# Altium integrated library Infineon_Microcontroller.IntLib: 721 symbols (part 56 of 66)
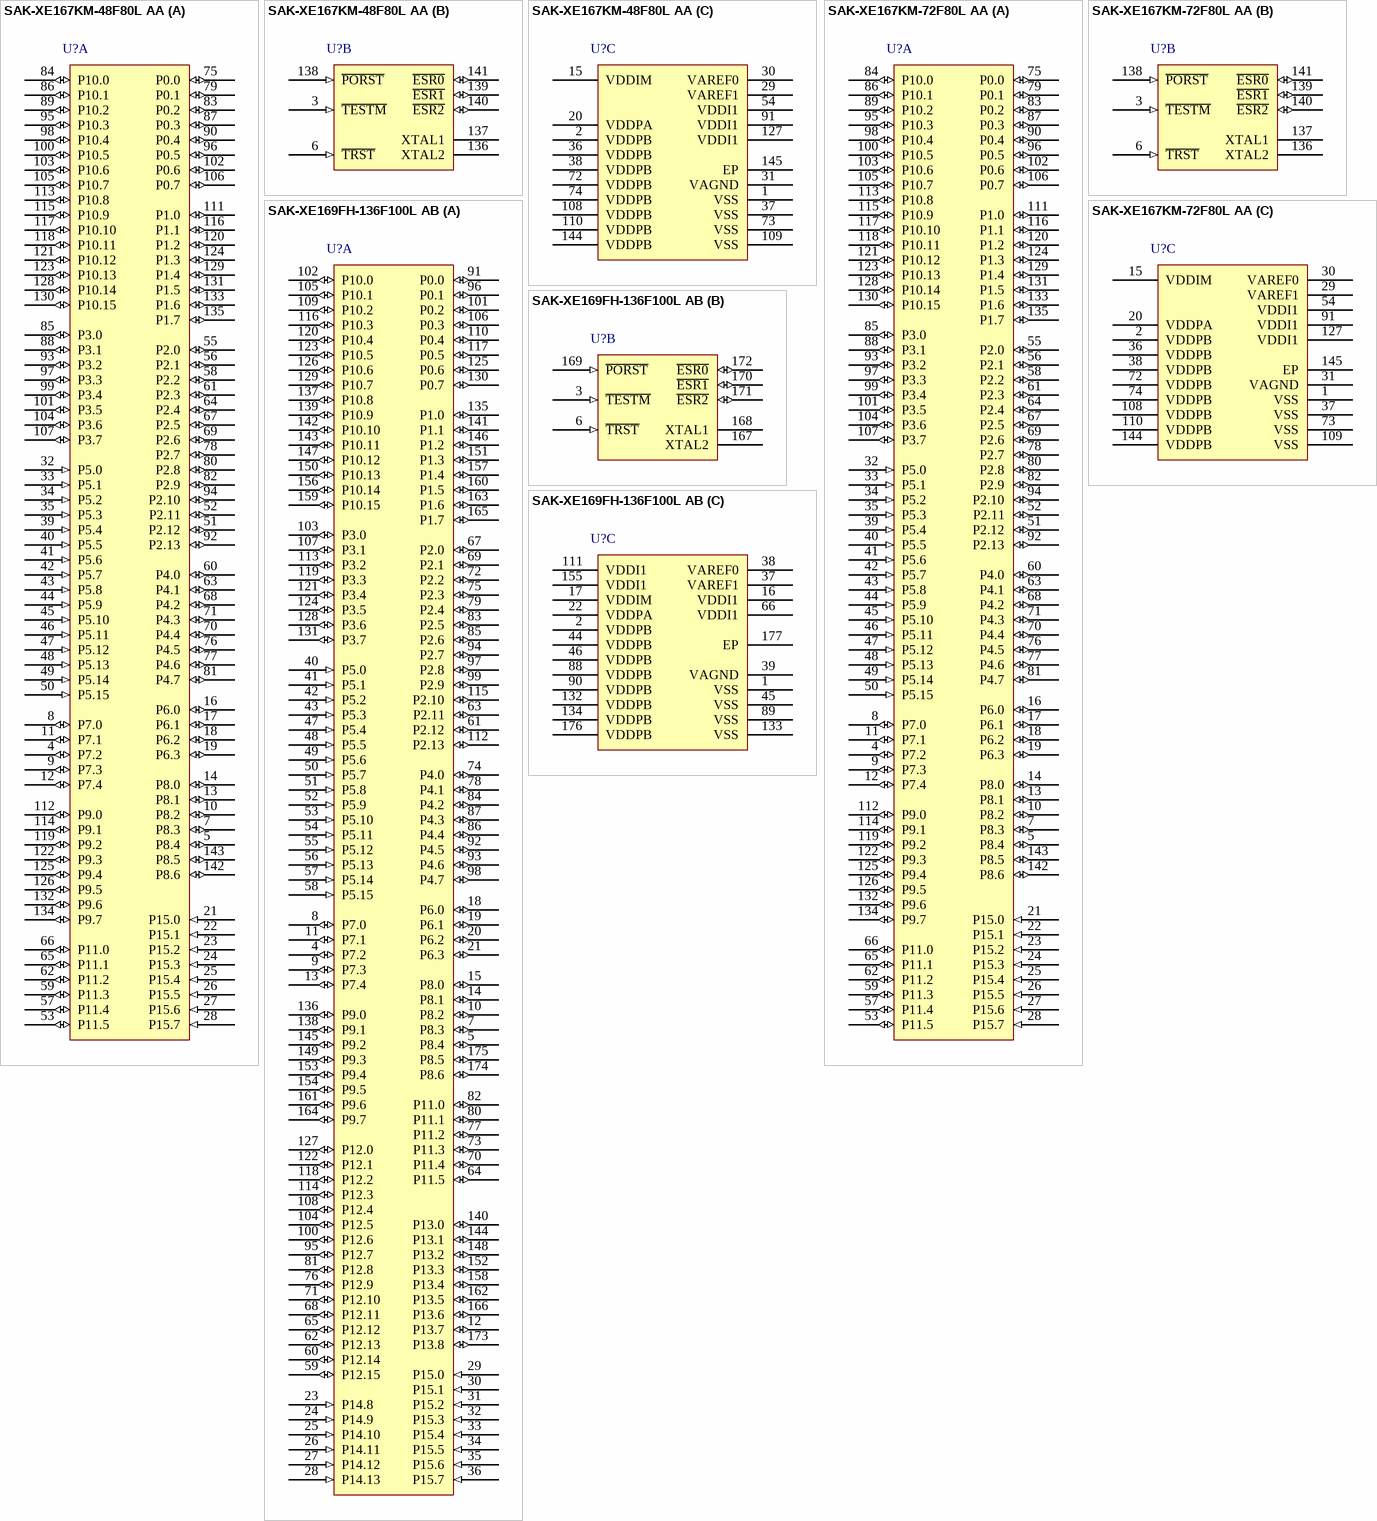
[diagram p173: symbols SAK-XE167KM-48F80L AA to SAK-XE169FH-136F100L AB]

## SAK-XE167KM-48F80L AA
designator U?
80 MHz XE166 MCU with 384 KByte Program Memory, 34 KByte SRAM, 3 V, 5.5 V, -40 to 125 degC, PG-LQFP-144, Reel, Green; Manufacturer: Infineon; PartNumber: SAK-XE167KM-48F80L AA; A / D input lines (incl. FADC): 16; CAN Nodes: 0; Comment/Add. Features: Functional Packing; DatasheetVersion: Rev. 2.1; PackageVersion: V2.1, 07/2011; PackageReference: PG-LQFP-144-13; PackageDescription: 144-Pin Plastic Green Thin Quad Flat Package, Body 20 x 20 mm, Pitch 0.5 mm; Supplier 1: Digi-Key; Supplier Part Number 1: SAK-XE167KM-48F80L AA-ND; Mounting Technology: Surface Mount; Code_JEDEC: J-STD-020C; ComponentLink1Description: Manufacturer URL; ComponentLink1URL: http://www.infineon.com/; ComponentLink2Description: Datasheet; ComponentLink2URL: http://www.infineon.com/dgdl/xe167xm_ds_v2.1_2011_07.pdf?folderId=db3a3043156fd5730115b3a665650d23&fileId=db3a304334c41e910134eb1468cf04e3; ComponentLink3Description: Package Specification; ComponentLink3URL: http://www.infineon.com/dgdl/xc238xa_ds_v2+1_2011_07.pdf?folderId=db3a304412b407950112b409d4b00386&fileId=db3a3043353fdc16013557e024517b1e&sId=db3a30443d98b7f0013d9b8ad537024b
footprint INF-PG-LQFP-144-13_N (QFP, 144-Leads, Body 20x20mm, Pitch 0.5mm, Thermal Pad 6.5x6.5mm, IPC Medium Density)
footprint INF-PG-LQFP-144-13_L (QFP, 144-Leads, Body 20x20mm, Pitch 0.5mm, Thermal Pad 6.5x6.5mm, IPC High Density)
footprint INF-PG-LQFP-144-13_M (QFP, 144-Leads, Body 20x20mm, Pitch 0.5mm, Thermal Pad 6.5x6.5mm, IPC Low Density)
part A pins: 4 P7.2 (io), 5 P8.4 (io), 7 P8.3 (io), 8 P7.0 (io), 9 P7.3 (io), 10 P8.2 (io), 11 P7.1 (io), 12 P7.4 (io), 13 P8.1 (io), 14 P8.0 (io), 16 P6.0 (io), 17 P6.1 (io), 18 P6.2 (io), 19 P6.3 (io), 21 P15.0 (in), 22 P15.1 (in), 23 P15.2 (in), 24 P15.3 (in), 25 P15.4 (in), 26 P15.5 (in), 27 P15.6 (in), 28 P15.7 (in), 32 P5.0 (in), 33 P5.1 (in), 34 P5.2 (in), 35 P5.3 (in), 39 P5.4 (in), 40 P5.5 (in), 41 P5.6 (in), 42 P5.7 (in), 43 P5.8 (in), 44 P5.9 (in), 45 P5.10 (in), 46 P5.11 (in), 47 P5.12 (in), 48 P5.13 (in), 49 P5.14 (in), 50 P5.15 (in), 51 P2.12 (io), 52 P2.11 (io), 53 P11.5 (io), 55 P2.0 (io), 56 P2.1 (io), 57 P11.4 (io), 58 P2.2 (io), 59 P11.3 (io), 60 P4.0 (io), 61 P2.3 (io), 62 P11.2 (io), 63 P4.1 (io), 64 P2.4 (io), 65 P11.1 (io), 66 P11.0 (io), 67 P2.5 (io), 68 P4.2 (io), 69 P2.6 (io), 70 P4.4 (io), 71 P4.3 (io), 75 P0.0 (io), 76 P4.5 (io), 77 P4.6 (io), 78 P2.7 (io), 79 P0.1 (io), 80 P2.8 (io), 81 P4.7 (io), 82 P2.9 (io), 83 P0.2 (io), 84 P10.0 (io), 85 P3.0 (io), 86 P10.1 (io), 87 P0.3 (io), 88 P3.1 (io), 89 P10.2 (io), 90 P0.4 (io), 92 P2.13 (io), 93 P3.2 (io), 94 P2.10 (io), 95 P10.3 (io), 96 P0.5 (io), 97 P3.3 (io), 98 P10.4 (io), 99 P3.4 (io), 100 P10.5 (io), 101 P3.5 (io), 102 P0.6 (io), 103 P10.6 (io), 104 P3.6 (io), 105 P10.7 (io), 106 P0.7 (io), 107 P3.7 (io), 111 P1.0 (io), 112 P9.0 (io), 113 P10.8 (io), 114 P9.1 (io), 115 P10.9 (io), 116 P1.1 (io), 117 P10.10 (io), 118 P10.11 (io), 119 P9.2 (io), 120 P1.2 (io), 121 P10.12 (io), 122 P9.3 (io), 123 P10.13 (io), 124 P1.3 (io), 125 P9.4 (io), 126 P9.5 (io), 128 P10.14 (io), 129 P1.4 (io), 130 P10.15 (io), 131 P1.5 (io), 132 P9.6 (io), 133 P1.6 (io), 134 P9.7 (io), 135 P1.7 (io), 142 P8.6 (io), 143 P8.5 (io)
part B pins: 3 ~{TESTM} (in) "Testmode Enable", 6 ~{TRST} (in) "Test-System Reset Input", 136 XTAL2 "Crystal Oscillator Amplifier Output", 137 XTAL1, 138 ~{PORST} (in) "Power On Reset Input", 139 ~{ESR1} (io), 140 ~{ESR2} (io), 141 ~{ESR0} (io)
part C pins: 1 VSS (power) "Digital Ground.", 2 VDDPB (power) "Digital Pad Supply Voltage for Domain B.", 15 VDDIM (power) "Digital Core Supply Voltage for Domain M", 20 VDDPA (power) "Digital Pad Supply Voltage for Domain A.", 29 VAREF1 (power) "Reference Voltage for A/D Converter ADC1", 30 VAREF0 (power) "Reference Voltage for A/D Converter ADC0", 31 VAGND (power) "Reference Ground for A/D Converters ADC0/1", 36 VDDPB (power) "Digital Pad Supply Voltage for Domain B.", 37 VSS (power) "Digital Ground.", 38 VDDPB (power) "Digital Pad Supply Voltage for Domain B.", 54 VDDI1 (power) "Digital Core Supply Voltage for Domain 1", 72 VDDPB (power) "Digital Pad Supply Voltage for Domain B.", 73 VSS (power) "Digital Ground.", 74 VDDPB (power) "Digital Pad Supply Voltage for Domain B.", 91 VDDI1 (power) "Digital Core Supply Voltage for Domain 1", 108 VDDPB (power) "Digital Pad Supply Voltage for Domain B.", 109 VSS (power) "Digital Ground.", 110 VDDPB (power) "Digital Pad Supply Voltage for Domain B.", 127 VDDI1 (power) "Digital Core Supply Voltage for Domain 1", 144 VDDPB (power) "Digital Pad Supply Voltage for Domain B.", 145 EP (power)

## SAK-XE167KM-72F80L AA
designator U?
80 MHz XE166 MCU with 576 KByte Program Memory, 50 KByte SRAM, 3 V, 5.5 V, -40 to 125 degC, PG-LQFP-144, Reel, Green; Manufacturer: Infineon; PartNumber: SAK-XE167KM-72F80L AA; A / D input lines (incl. FADC): 16; CAN Nodes: 0; Comment/Add. Features: Functional Packing; DatasheetVersion: Rev. 2.1; PackageVersion: V2.1, 07/2011; PackageReference: PG-LQFP-144-13; PackageDescription: 144-Pin Plastic Green Thin Quad Flat Package, Body 20 x 20 mm, Pitch 0.5 mm; Supplier 1: Digi-Key; Supplier Part Number 1: SAK-XE167KM-72F80L AA-ND; Mounting Technology: Surface Mount; Code_JEDEC: J-STD-020C; ComponentLink1Description: Manufacturer URL; ComponentLink1URL: http://www.infineon.com/; ComponentLink2Description: Datasheet; ComponentLink2URL: http://www.infineon.com/dgdl/xe167xm_ds_v2.1_2011_07.pdf?folderId=db3a3043156fd5730115b3a665650d23&fileId=db3a304334c41e910134eb1468cf04e3; ComponentLink3Description: Package Specification; ComponentLink3URL: http://www.infineon.com/dgdl/xc238xa_ds_v2+1_2011_07.pdf?folderId=db3a304412b407950112b409d4b00386&fileId=db3a3043353fdc16013557e024517b1e&sId=db3a30443d98b7f0013d9b8ad537024b
footprint INF-PG-LQFP-144-13_N (QFP, 144-Leads, Body 20x20mm, Pitch 0.5mm, Thermal Pad 6.5x6.5mm, IPC Medium Density)
footprint INF-PG-LQFP-144-13_L (QFP, 144-Leads, Body 20x20mm, Pitch 0.5mm, Thermal Pad 6.5x6.5mm, IPC High Density)
footprint INF-PG-LQFP-144-13_M (QFP, 144-Leads, Body 20x20mm, Pitch 0.5mm, Thermal Pad 6.5x6.5mm, IPC Low Density)
part A pins: 4 P7.2 (io), 5 P8.4 (io), 7 P8.3 (io), 8 P7.0 (io), 9 P7.3 (io), 10 P8.2 (io), 11 P7.1 (io), 12 P7.4 (io), 13 P8.1 (io), 14 P8.0 (io), 16 P6.0 (io), 17 P6.1 (io), 18 P6.2 (io), 19 P6.3 (io), 21 P15.0 (in), 22 P15.1 (in), 23 P15.2 (in), 24 P15.3 (in), 25 P15.4 (in), 26 P15.5 (in), 27 P15.6 (in), 28 P15.7 (in), 32 P5.0 (in), 33 P5.1 (in), 34 P5.2 (in), 35 P5.3 (in), 39 P5.4 (in), 40 P5.5 (in), 41 P5.6 (in), 42 P5.7 (in), 43 P5.8 (in), 44 P5.9 (in), 45 P5.10 (in), 46 P5.11 (in), 47 P5.12 (in), 48 P5.13 (in), 49 P5.14 (in), 50 P5.15 (in), 51 P2.12 (io), 52 P2.11 (io), 53 P11.5 (io), 55 P2.0 (io), 56 P2.1 (io), 57 P11.4 (io), 58 P2.2 (io), 59 P11.3 (io), 60 P4.0 (io), 61 P2.3 (io), 62 P11.2 (io), 63 P4.1 (io), 64 P2.4 (io), 65 P11.1 (io), 66 P11.0 (io), 67 P2.5 (io), 68 P4.2 (io), 69 P2.6 (io), 70 P4.4 (io), 71 P4.3 (io), 75 P0.0 (io), 76 P4.5 (io), 77 P4.6 (io), 78 P2.7 (io), 79 P0.1 (io), 80 P2.8 (io), 81 P4.7 (io), 82 P2.9 (io), 83 P0.2 (io), 84 P10.0 (io), 85 P3.0 (io), 86 P10.1 (io), 87 P0.3 (io), 88 P3.1 (io), 89 P10.2 (io), 90 P0.4 (io), 92 P2.13 (io), 93 P3.2 (io), 94 P2.10 (io), 95 P10.3 (io), 96 P0.5 (io), 97 P3.3 (io), 98 P10.4 (io), 99 P3.4 (io), 100 P10.5 (io), 101 P3.5 (io), 102 P0.6 (io), 103 P10.6 (io), 104 P3.6 (io), 105 P10.7 (io), 106 P0.7 (io), 107 P3.7 (io), 111 P1.0 (io), 112 P9.0 (io), 113 P10.8 (io), 114 P9.1 (io), 115 P10.9 (io), 116 P1.1 (io), 117 P10.10 (io), 118 P10.11 (io), 119 P9.2 (io), 120 P1.2 (io), 121 P10.12 (io), 122 P9.3 (io), 123 P10.13 (io), 124 P1.3 (io), 125 P9.4 (io), 126 P9.5 (io), 128 P10.14 (io), 129 P1.4 (io), 130 P10.15 (io), 131 P1.5 (io), 132 P9.6 (io), 133 P1.6 (io), 134 P9.7 (io), 135 P1.7 (io), 142 P8.6 (io), 143 P8.5 (io)
part B pins: 3 ~{TESTM} (in) "Testmode Enable", 6 ~{TRST} (in) "Test-System Reset Input", 136 XTAL2 "Crystal Oscillator Amplifier Output", 137 XTAL1, 138 ~{PORST} (in) "Power On Reset Input", 139 ~{ESR1} (io), 140 ~{ESR2} (io), 141 ~{ESR0} (io)
part C pins: 1 VSS (power) "Digital Ground.", 2 VDDPB (power) "Digital Pad Supply Voltage for Domain B.", 15 VDDIM (power) "Digital Core Supply Voltage for Domain M", 20 VDDPA (power) "Digital Pad Supply Voltage for Domain A.", 29 VAREF1 (power) "Reference Voltage for A/D Converter ADC1", 30 VAREF0 (power) "Reference Voltage for A/D Converter ADC0", 31 VAGND (power) "Reference Ground for A/D Converters ADC0/1", 36 VDDPB (power) "Digital Pad Supply Voltage for Domain B.", 37 VSS (power) "Digital Ground.", 38 VDDPB (power) "Digital Pad Supply Voltage for Domain B.", 54 VDDI1 (power) "Digital Core Supply Voltage for Domain 1", 72 VDDPB (power) "Digital Pad Supply Voltage for Domain B.", 73 VSS (power) "Digital Ground.", 74 VDDPB (power) "Digital Pad Supply Voltage for Domain B.", 91 VDDI1 (power) "Digital Core Supply Voltage for Domain 1", 108 VDDPB (power) "Digital Pad Supply Voltage for Domain B.", 109 VSS (power) "Digital Ground.", 110 VDDPB (power) "Digital Pad Supply Voltage for Domain B.", 127 VDDI1 (power) "Digital Core Supply Voltage for Domain 1", 144 VDDPB (power) "Digital Pad Supply Voltage for Domain B.", 145 EP (power)

## SAK-XE169FH-136F100L AB
designator U?
100 MHz XE166 MCU with 1,088 KByte Program Memory, 138 KByte SRAM, 3 V, 5.5 V, -40 to 125 degC, PG-LQFP-176, Reel, Green; Manufacturer: Infineon; PartNumber: SAK-XE169FH-136F100L AB; A / D input lines (incl. FADC): 30; CAN Nodes: 6; DatasheetVersion: Rev. 1.3; PackageVersion: V1.3, 07/2011; PackageReference: PG-LQFP-176-12; PackageDescription: 176-Pin Plastic Green Thin Quad Flat Package, Body 24 x 24 mm, Pitch 0.5 mm; Mounting Technology: Surface Mount; Code_JEDEC: J-STD-020C; ComponentLink1Description: Manufacturer URL; ComponentLink1URL: http://www.infineon.com/; ComponentLink2Description: Datasheet; ComponentLink2URL: http://www.infineon.com/dgdl/xe169xh_ds_v1.3_2011_07.pdf?folderId=db3a3043156fd5730115b3a665650d23&fileId=db3a304328c6bd5c01291216ba3909a8; ComponentLink3Description: Package Specification; ComponentLink3URL: http://www.infineon.com/dgdl/xc2797x_ds_v1.3_2011_07.pdf?folderId=db3a3043156fd5730115944bf6c00727&fileId=db3a304328c6bd5c0129120a874a0994
footprint INF-PG-LQFP-176-12_N (QFP, 176-Leads, Body 24x24mm, Pitch 0.5mm, Thermal Pad 7.9x7.9mm, IPC Medium Density)
footprint INF-PG-LQFP-176-12_L (QFP, 176-Leads, Body 24x24mm, Pitch 0.5mm, Thermal Pad 7.9x7.9mm, IPC High Density)
footprint INF-PG-LQFP-176-12_M (QFP, 176-Leads, Body 24x24mm, Pitch 0.5mm, Thermal Pad 7.9x7.9mm, IPC Low Density)
part A pins: 4 P7.2 (io), 5 P8.4 (io), 7 P8.3 (io), 8 P7.0 (io), 9 P7.3 (io), 10 P8.2 (io), 11 P7.1 (io), 12 P13.7 (io), 13 P7.4 (io), 14 P8.1 (io), 15 P8.0 (io), 18 P6.0 (io), 19 P6.1 (io), 20 P6.2 (io), 21 P6.3 (io), 23 P14.8 (in), 24 P14.9 (in), 25 P14.10 (in), 26 P14.11 (in), 27 P14.12 (in), 28 P14.13 (in), 29 P15.0 (in), 30 P15.1 (in), 31 P15.2 (in), 32 P15.3 (in), 33 P15.4 (in), 34 P15.5 (in), 35 P15.6 (in), 36 P15.7 (in), 40 P5.0 (in), 41 P5.1 (in), 42 P5.2 (in), 43 P5.3 (in), 47 P5.4 (in), 48 P5.5 (in), 49 P5.6 (in), 50 P5.7 (in), 51 P5.8 (in), 52 P5.9 (in), 53 P5.10 (in), 54 P5.11 (in), 55 P5.12 (in), 56 P5.13 (in), 57 P5.14 (in), 58 P5.15 (in), 59 P12.15 (io), 60 P12.14 (io), 61 P2.12 (io), 62 P12.13 (io), 63 P2.11 (io), 64 P11.5 (io), 65 P12.12 (io), 67 P2.0 (io), 68 P12.11 (io), 69 P2.1 (io), 70 P11.4 (io), 71 P12.10 (io), 72 P2.2 (io), 73 P11.3 (io), 74 P4.0 (io), 75 P2.3 (io), 76 P12.9 (io), 77 P11.2 (io), 78 P4.1 (io), 79 P2.4 (io), 80 P11.1 (io), 81 P12.8 (io), 82 P11.0 (io), 83 P2.5 (io), 84 P4.2 (io), 85 P2.6 (io), 86 P4.4 (io), 87 P4.3 (io), 91 P0.0 (io), 92 P4.5 (io), 93 P4.6 (io), 94 P2.7 (io), 95 P12.7 (io), 96 P0.1 (io), 97 P2.8 (io), 98 P4.7 (io), 99 P2.9 (io), 100 P12.6 (io), 101 P0.2 (io), 102 P10.0 (io), 103 P3.0 (io), 104 P12.5 (io), 105 P10.1 (io), 106 P0.3 (io), 107 P3.1 (io), 108 P12.4 (io), 109 P10.2 (io), 110 P0.4 (io), 112 P2.13 (io), 113 P3.2 (io), 114 P12.3 (io), 115 P2.10 (io), 116 P10.3 (io), 117 P0.5 (io), 118 P12.2 (io), 119 P3.3 (io), 120 P10.4 (io), 121 P3.4 (io), 122 P12.1 (io), 123 P10.5 (io), 124 P3.5 (io), 125 P0.6 (io), 126 P10.6 (io), 127 P12.0 (io), 128 P3.6 (io), 129 P10.7 (io), 130 P0.7 (io), 131 P3.7 (io), 135 P1.0 (io), 136 P9.0 (io), 137 P10.8 (io), 138 P9.1 (io), 139 P10.9 (io), 140 P13.0 (io), 141 P1.1 (io), 142 P10.10 (io), 143 P10.11 (io), 144 P13.1 (io), 145 P9.2 (io), 146 P1.2 (io), 147 P10.12 (io), 148 P13.2 (io), 149 P9.3 (io), 150 P10.13 (io), 151 P1.3 (io), 152 P13.3 (io), 153 P9.4 (io), 154 P9.5 (io), 156 P10.14 (io), 157 P1.4 (io), 158 P13.4 (io), 159 P10.15 (io), 160 P1.5 (io), 161 P9.6 (io), 162 P13.5 (io), 163 P1.6 (io), 164 P9.7 (io), 165 P1.7 (io), 166 P13.6 (io), 173 P13.8 (io), 174 P8.6 (io), 175 P8.5 (io)
part B pins: 3 ~{TESTM} (in) "Testmode Enable", 6 ~{TRST} (in) "Test-System Reset Input", 167 XTAL2 "Crystal Oscillator Amplifier Output", 168 XTAL1, 169 ~{PORST} (in), 170 ~{ESR1} (io), 171 ~{ESR2} (io), 172 ~{ESR0} (io)
part C pins: 1 VSS (power) "Digital Ground", 2 VDDPB (power) "Digital Pad Supply Voltage for Domain B", 16 VDDI1 (power) "Digital Core Supply Voltage for Domain 1", 17 VDDIM (power) "Digital Core Supply Voltage for Domain M", 22 VDDPA (power) "Digital Pad Supply Voltage for Domain A", 37 VAREF1 (power) "Reference Voltage for A/D Converter ADC1", 38 VAREF0 (power) "Reference Voltage for A/D Converter ADC0", 39 VAGND (power) "Reference Ground for A/D Converters ADC0/1", 44 VDDPB (power) "Digital Pad Supply Voltage for Domain B", 45 VSS (power) "Digital Ground", 46 VDDPB (power) "Digital Pad Supply Voltage for Domain B", 66 VDDI1 (power) "Digital Core Supply Voltage for Domain 1", 88 VDDPB (power) "Digital Pad Supply Voltage for Domain B", 89 VSS (power) "Digital Ground", 90 VDDPB (power) "Digital Pad Supply Voltage for Domain B", 111 VDDI1 (power) "Digital Core Supply Voltage for Domain 1", 132 VDDPB (power) "Digital Pad Supply Voltage for Domain B", 133 VSS (power) "Digital Ground", 134 VDDPB (power) "Digital Pad Supply Voltage for Domain B", 155 VDDI1 (power) "Digital Core Supply Voltage for Domain 1", 176 VDDPB (power) "Digital Pad Supply Voltage for Domain B", 177 EP (power)

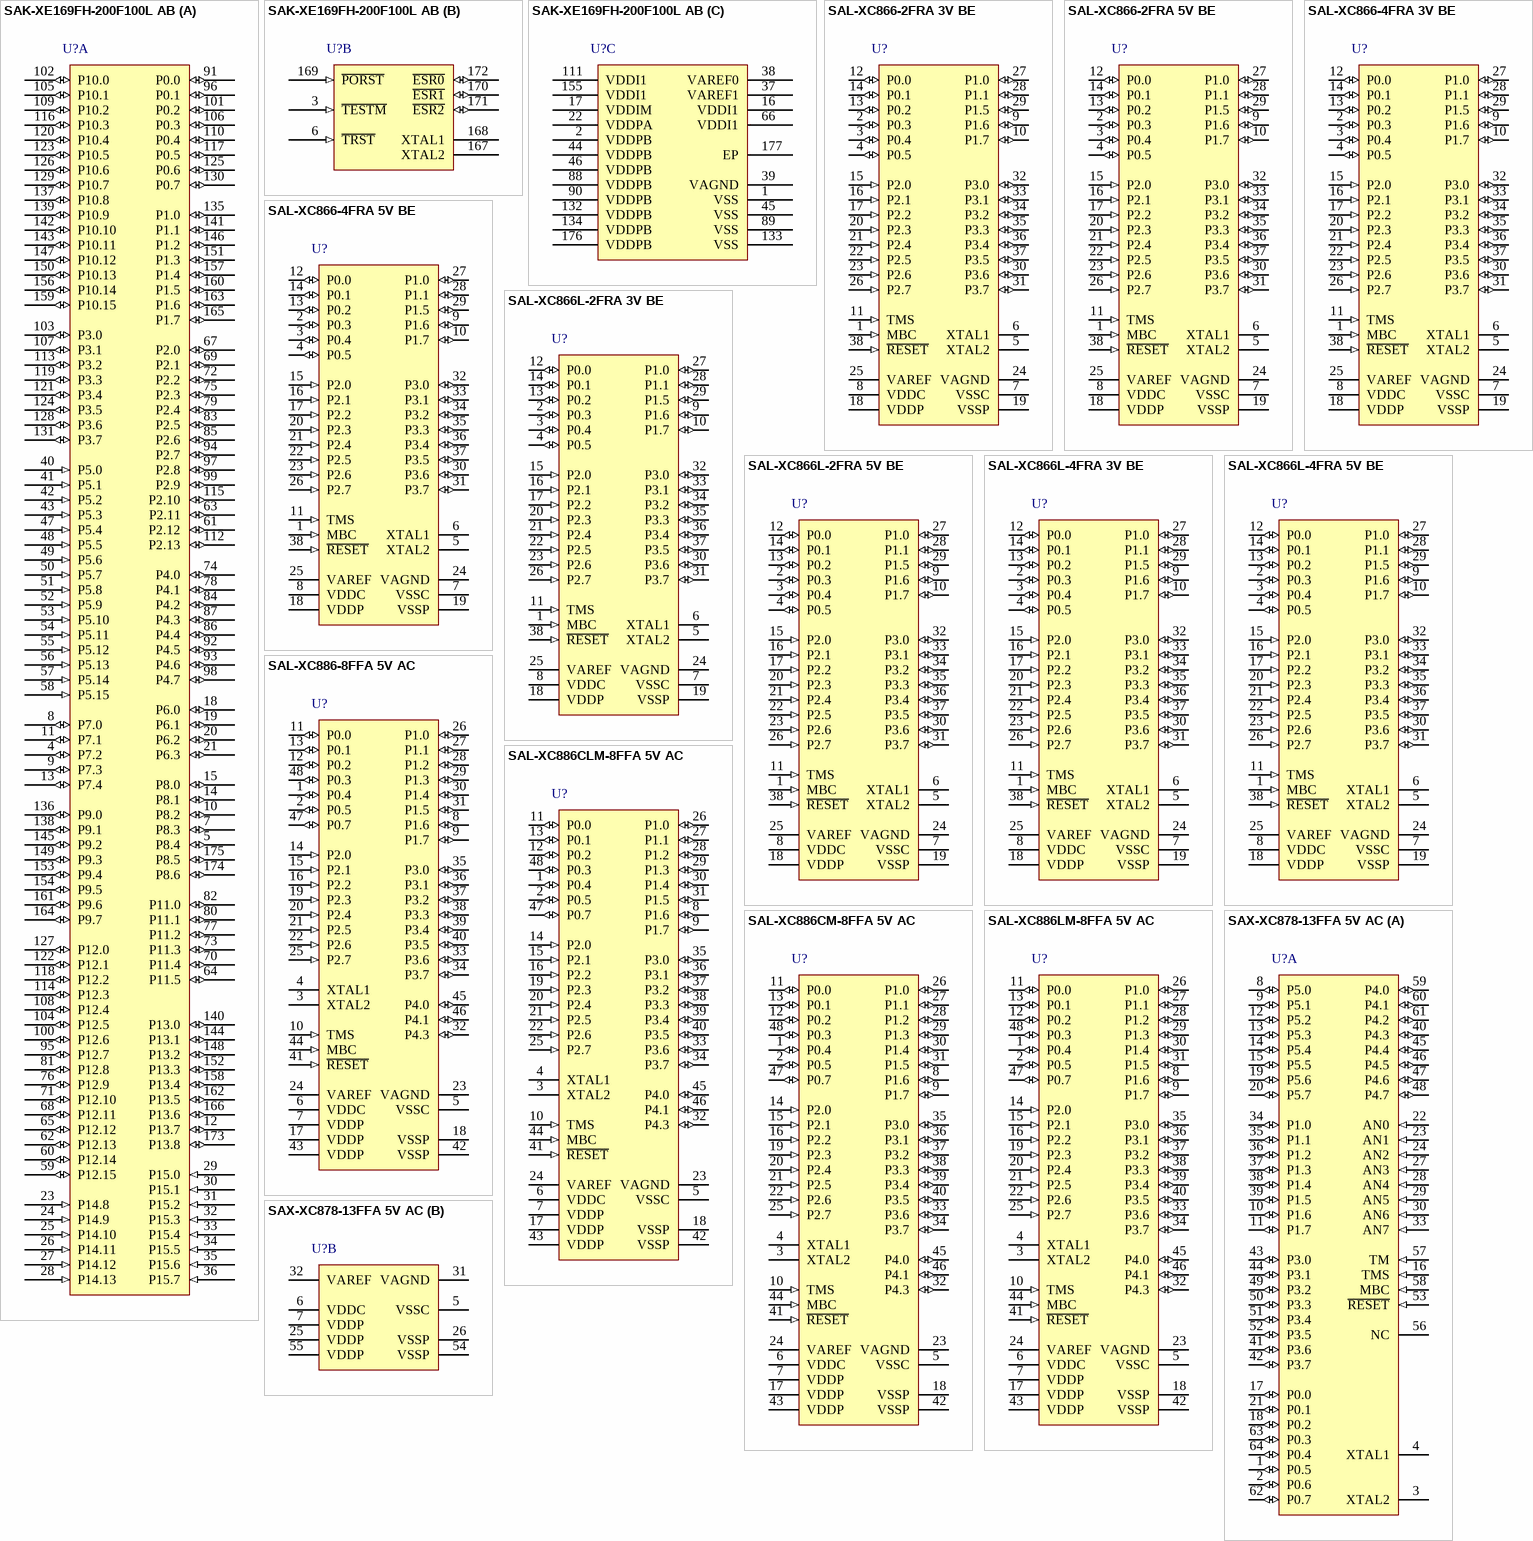
[diagram p103: symbols SAK-XE169FH-200F100L AB to SAX-XC878-13FFA 5V AC]

## SAK-XE169FH-200F100L AB
designator U?
100 MHz XE166 MCU with 1,600 KByte Program Memory, 138 KByte SRAM, 3 V, 5.5 V, -40 to 125 degC, PG-LQFP-176, Reel, Green; Manufacturer: Infineon; PartNumber: SAK-XE169FH-200F100L AB; A / D input lines (incl. FADC): 30; CAN Nodes: 6; DatasheetVersion: Rev. 1.3; PackageVersion: V1.3, 07/2011; PackageReference: PG-LQFP-176-12; PackageDescription: 176-Pin Plastic Green Thin Quad Flat Package, Body 24 x 24 mm, Pitch 0.5 mm; Mounting Technology: Surface Mount; Code_JEDEC: J-STD-020C; ComponentLink1Description: Manufacturer URL; ComponentLink1URL: http://www.infineon.com/; ComponentLink2Description: Datasheet; ComponentLink2URL: http://www.infineon.com/dgdl/xe169xh_ds_v1.3_2011_07.pdf?folderId=db3a3043156fd5730115b3a665650d23&fileId=db3a304328c6bd5c01291216ba3909a8; ComponentLink3Description: Package Specification; ComponentLink3URL: http://www.infineon.com/dgdl/xc2797x_ds_v1.3_2011_07.pdf?folderId=db3a3043156fd5730115944bf6c00727&fileId=db3a304328c6bd5c0129120a874a0994
footprint INF-PG-LQFP-176-12_N (QFP, 176-Leads, Body 24x24mm, Pitch 0.5mm, Thermal Pad 7.9x7.9mm, IPC Medium Density)
footprint INF-PG-LQFP-176-12_L (QFP, 176-Leads, Body 24x24mm, Pitch 0.5mm, Thermal Pad 7.9x7.9mm, IPC High Density)
footprint INF-PG-LQFP-176-12_M (QFP, 176-Leads, Body 24x24mm, Pitch 0.5mm, Thermal Pad 7.9x7.9mm, IPC Low Density)
part A pins: 4 P7.2 (io), 5 P8.4 (io), 7 P8.3 (io), 8 P7.0 (io), 9 P7.3 (io), 10 P8.2 (io), 11 P7.1 (io), 12 P13.7 (io), 13 P7.4 (io), 14 P8.1 (io), 15 P8.0 (io), 18 P6.0 (io), 19 P6.1 (io), 20 P6.2 (io), 21 P6.3 (io), 23 P14.8 (in), 24 P14.9 (in), 25 P14.10 (in), 26 P14.11 (in), 27 P14.12 (in), 28 P14.13 (in), 29 P15.0 (in), 30 P15.1 (in), 31 P15.2 (in), 32 P15.3 (in), 33 P15.4 (in), 34 P15.5 (in), 35 P15.6 (in), 36 P15.7 (in), 40 P5.0 (in), 41 P5.1 (in), 42 P5.2 (in), 43 P5.3 (in), 47 P5.4 (in), 48 P5.5 (in), 49 P5.6 (in), 50 P5.7 (in), 51 P5.8 (in), 52 P5.9 (in), 53 P5.10 (in), 54 P5.11 (in), 55 P5.12 (in), 56 P5.13 (in), 57 P5.14 (in), 58 P5.15 (in), 59 P12.15 (io), 60 P12.14 (io), 61 P2.12 (io), 62 P12.13 (io), 63 P2.11 (io), 64 P11.5 (io), 65 P12.12 (io), 67 P2.0 (io), 68 P12.11 (io), 69 P2.1 (io), 70 P11.4 (io), 71 P12.10 (io), 72 P2.2 (io), 73 P11.3 (io), 74 P4.0 (io), 75 P2.3 (io), 76 P12.9 (io), 77 P11.2 (io), 78 P4.1 (io), 79 P2.4 (io), 80 P11.1 (io), 81 P12.8 (io), 82 P11.0 (io), 83 P2.5 (io), 84 P4.2 (io), 85 P2.6 (io), 86 P4.4 (io), 87 P4.3 (io), 91 P0.0 (io), 92 P4.5 (io), 93 P4.6 (io), 94 P2.7 (io), 95 P12.7 (io), 96 P0.1 (io), 97 P2.8 (io), 98 P4.7 (io), 99 P2.9 (io), 100 P12.6 (io), 101 P0.2 (io), 102 P10.0 (io), 103 P3.0 (io), 104 P12.5 (io), 105 P10.1 (io), 106 P0.3 (io), 107 P3.1 (io), 108 P12.4 (io), 109 P10.2 (io), 110 P0.4 (io), 112 P2.13 (io), 113 P3.2 (io), 114 P12.3 (io), 115 P2.10 (io), 116 P10.3 (io), 117 P0.5 (io), 118 P12.2 (io), 119 P3.3 (io), 120 P10.4 (io), 121 P3.4 (io), 122 P12.1 (io), 123 P10.5 (io), 124 P3.5 (io), 125 P0.6 (io), 126 P10.6 (io), 127 P12.0 (io), 128 P3.6 (io), 129 P10.7 (io), 130 P0.7 (io), 131 P3.7 (io), 135 P1.0 (io), 136 P9.0 (io), 137 P10.8 (io), 138 P9.1 (io), 139 P10.9 (io), 140 P13.0 (io), 141 P1.1 (io), 142 P10.10 (io), 143 P10.11 (io), 144 P13.1 (io), 145 P9.2 (io), 146 P1.2 (io), 147 P10.12 (io), 148 P13.2 (io), 149 P9.3 (io), 150 P10.13 (io), 151 P1.3 (io), 152 P13.3 (io), 153 P9.4 (io), 154 P9.5 (io), 156 P10.14 (io), 157 P1.4 (io), 158 P13.4 (io), 159 P10.15 (io), 160 P1.5 (io), 161 P9.6 (io), 162 P13.5 (io), 163 P1.6 (io), 164 P9.7 (io), 165 P1.7 (io), 166 P13.6 (io), 173 P13.8 (io), 174 P8.6 (io), 175 P8.5 (io)
part B pins: 3 ~{TESTM} (in) "Testmode Enable", 6 ~{TRST} (in) "Test-System Reset Input", 167 XTAL2 "Crystal Oscillator Amplifier Output", 168 XTAL1, 169 ~{PORST} (in), 170 ~{ESR1} (io), 171 ~{ESR2} (io), 172 ~{ESR0} (io)
part C pins: 1 VSS (power) "Digital Ground", 2 VDDPB (power) "Digital Pad Supply Voltage for Domain B", 16 VDDI1 (power) "Digital Core Supply Voltage for Domain 1", 17 VDDIM (power) "Digital Core Supply Voltage for Domain M", 22 VDDPA (power) "Digital Pad Supply Voltage for Domain A", 37 VAREF1 (power) "Reference Voltage for A/D Converter ADC1", 38 VAREF0 (power) "Reference Voltage for A/D Converter ADC0", 39 VAGND (power) "Reference Ground for A/D Converters ADC0/1", 44 VDDPB (power) "Digital Pad Supply Voltage for Domain B", 45 VSS (power) "Digital Ground", 46 VDDPB (power) "Digital Pad Supply Voltage for Domain B", 66 VDDI1 (power) "Digital Core Supply Voltage for Domain 1", 88 VDDPB (power) "Digital Pad Supply Voltage for Domain B", 89 VSS (power) "Digital Ground", 90 VDDPB (power) "Digital Pad Supply Voltage for Domain B", 111 VDDI1 (power) "Digital Core Supply Voltage for Domain 1", 132 VDDPB (power) "Digital Pad Supply Voltage for Domain B", 133 VSS (power) "Digital Ground", 134 VDDPB (power) "Digital Pad Supply Voltage for Domain B", 155 VDDI1 (power) "Digital Core Supply Voltage for Domain 1", 176 VDDPB (power) "Digital Pad Supply Voltage for Domain B", 177 EP (power)

## SAL-XC866-2FRA 3V BE
designator U?
25 MHz XC800-Automotive MCU with 8 KByte Program Memory, 0.75 KByte SRAM, 3 V, PG-TSSOP-38, Reel, Green; Manufacturer: Infineon; PartNumber: SAL-XC866-2FRA 3V BE; A / D input lines (incl. FADC): 8; CAN Nodes: 0; Digital I/O Lines: 27; DSP functionality (e.g MDU/MAC): FALSE; Green: TRUE; I/O Operation Voltages: 3 V; LIN BSL loader (for fast Flash programming): FALSE; Max Clock Frequency: 25 MHz; Number of ADC Modules: 1; Power Modes: 4; Program Memory: 8 KByte; Serial I/O Interfaces: 2; Timer / Counter: 3; Type of Memory: Flash; Type of Serial I/O Interfaces: UART(1), SSC(1); DatasheetVersion: Rev. 1.1; PackageVersion: V1.2, 10/2007; PackageReference: PG-TSSOP-38-4; PackageDescription: 38-Pin Plastic (Green) Thin Shrink Small Outline Package, Body 9.7 x 4.4 mm, Pitch 0.5 mm; DMA Channels: 0; E2PROM Emulation (Data-Flash): FALSE; Halogen-free: FALSE; Instruction width [bits]: 8; On-chip clock generation: TRUE; On-chip Voltage Regulator: TRUE; Oscillator Watchdog: TRUE; Packing: Reel; Real Time Clock (RTC): FALSE; SRAM (incl. Cache): 0.75 KByte; Timed I/O Pins (PWM-Ch,CAPCOM): 4; Watchdog Timer: TRUE; Mounting Technology: Surface Mount; ComponentLink1Description: Manufacturer URL; ComponentLink1URL: http://www.infineon.com/; ComponentLink2Description: Datasheet; ComponentLink2URL: http://www.infineon.com/dgdl/SAL_XC866_ds_v1+1_2012-12.pdf?folderId=db3a304412b407950112b40c497b0af6&fileId=db3a30433004641301306564e09f0366; ComponentLink3Description: Package Specification; ComponentLink3URL: http://www.infineon.com/dgdl/XC866_ds_v12.pdf?folderId=db3a304412b407950112b408e8c90004&fileId=db3a304412b407950112b4198e7528a5&sId=db3a30433d956bc3013da013eedc2925
footprint INF-PG-TSSOP-38-4_N (SOP, 38-Leads, Body 9.7x4.4mm, Pitch 0.5mm, IPC Medium Density)
footprint INF-PG-TSSOP-38-4_L (SOP, 38-Leads, Body 9.7x4.4mm, Pitch 0.5mm, IPC High Density)
footprint INF-PG-TSSOP-38-4_M (SOP, 38-Leads, Body 9.7x4.4mm, Pitch 0.5mm, IPC Low Density)
pins: 1 MBC (in) "Monitor & BootStrap Loader Control", 2 P0.3 (io), 3 P0.4 (io), 4 P0.5 (io), 5 XTAL2 "External Oscillator Output (NC if not needed)", 6 XTAL1 "External Oscillator Input (NC if not needed)", 7 VSSC (power) "Core Supply Ground", 8 VDDC (power) "Core Supply Monitor (2.5 V)", 9 P1.6 (io), 10 P1.7 (io), 11 TMS (in) "Test Mode Select", 12 P0.0 (io), 13 P0.2 (io), 14 P0.1 (io), 15 P2.0 (in), 16 P2.1 (in), 17 P2.2 (in), 18 VDDP (power) "I/O Port Supply (3.3 V/5.0 V) Also used by EVR and analog modules.", 19 VSSP (power) "I/O Port Ground", 20 P2.3 (in), 21 P2.4 (in), 22 P2.5 (in), 23 P2.6 (in), 24 VAGND (power) "ADC Reference Ground", 25 VAREF (power) "ADC Reference Voltage", 26 P2.7 (in), 27 P1.0 (io), 28 P1.1 (io), 29 P1.5 (io), 30 P3.6 (io), 31 P3.7 (io), 32 P3.0 (io), 33 P3.1 (io), 34 P3.2 (io), 35 P3.3 (io), 36 P3.4 (io), 37 P3.5 (io), 38 ~{RESET} (in) "Reset Input"

## SAL-XC866-2FRA 5V BE
designator U?
25 MHz XC800-Automotive MCU with 8 KByte Program Memory, 0.75 KByte SRAM, 5 V, PG-TSSOP-38, Reel, Green; Manufacturer: Infineon; PartNumber: SAL-XC866-2FRA 5V BE; A / D input lines (incl. FADC): 8; CAN Nodes: 0; Digital I/O Lines: 27; DSP functionality (e.g MDU/MAC): FALSE; Green: TRUE; I/O Operation Voltages: 5 V; LIN BSL loader (for fast Flash programming): FALSE; Max Clock Frequency: 25 MHz; Number of ADC Modules: 1; Power Modes: 4; Program Memory: 8 KByte; Serial I/O Interfaces: 2; Timer / Counter: 3; Type of Memory: Flash; Type of Serial I/O Interfaces: UART(1), SSC(1); DatasheetVersion: Rev. 1.1; PackageVersion: V1.2, 10/2007; PackageReference: PG-TSSOP-38-4; PackageDescription: 38-Pin Plastic (Green) Thin Shrink Small Outline Package, Body 9.7 x 4.4 mm, Pitch 0.5 mm; DMA Channels: 0; E2PROM Emulation (Data-Flash): FALSE; Halogen-free: TRUE; Instruction width [bits]: 8; On-chip clock generation: TRUE; On-chip Voltage Regulator: TRUE; Oscillator Watchdog: TRUE; Packing: Reel; Real Time Clock (RTC): FALSE; SRAM (incl. Cache): 0.75 KByte; Timed I/O Pins (PWM-Ch,CAPCOM): 4; Watchdog Timer: TRUE; Mounting Technology: Surface Mount; ComponentLink1Description: Manufacturer URL; ComponentLink1URL: http://www.infineon.com/; ComponentLink2Description: Datasheet; ComponentLink2URL: http://www.infineon.com/dgdl/SAL_XC866_ds_v1+1_2012-12.pdf?folderId=db3a304412b407950112b40c497b0af6&fileId=db3a30433004641301306564e09f0366; ComponentLink3Description: Package Specification; ComponentLink3URL: http://www.infineon.com/dgdl/XC866_ds_v12.pdf?folderId=db3a304412b407950112b408e8c90004&fileId=db3a304412b407950112b4198e7528a5&sId=db3a30433d956bc3013da013eedc2925
footprint INF-PG-TSSOP-38-4_N (SOP, 38-Leads, Body 9.7x4.4mm, Pitch 0.5mm, IPC Medium Density)
footprint INF-PG-TSSOP-38-4_L (SOP, 38-Leads, Body 9.7x4.4mm, Pitch 0.5mm, IPC High Density)
footprint INF-PG-TSSOP-38-4_M (SOP, 38-Leads, Body 9.7x4.4mm, Pitch 0.5mm, IPC Low Density)
pins: 1 MBC (in) "Monitor & BootStrap Loader Control", 2 P0.3 (io), 3 P0.4 (io), 4 P0.5 (io), 5 XTAL2 "External Oscillator Output (NC if not needed)", 6 XTAL1 "External Oscillator Input (NC if not needed)", 7 VSSC (power) "Core Supply Ground", 8 VDDC (power) "Core Supply Monitor (2.5 V)", 9 P1.6 (io), 10 P1.7 (io), 11 TMS (in) "Test Mode Select", 12 P0.0 (io), 13 P0.2 (io), 14 P0.1 (io), 15 P2.0 (in), 16 P2.1 (in), 17 P2.2 (in), 18 VDDP (power) "I/O Port Supply (3.3 V/5.0 V) Also used by EVR and analog modules.", 19 VSSP (power) "I/O Port Ground", 20 P2.3 (in), 21 P2.4 (in), 22 P2.5 (in), 23 P2.6 (in), 24 VAGND (power) "ADC Reference Ground", 25 VAREF (power) "ADC Reference Voltage", 26 P2.7 (in), 27 P1.0 (io), 28 P1.1 (io), 29 P1.5 (io), 30 P3.6 (io), 31 P3.7 (io), 32 P3.0 (io), 33 P3.1 (io), 34 P3.2 (io), 35 P3.3 (io), 36 P3.4 (io), 37 P3.5 (io), 38 ~{RESET} (in) "Reset Input"

## SAL-XC866-4FRA 3V BE
designator U?
25 MHz XC800-Automotive MCU with 16 KByte Program Memory, 0.75 KByte SRAM, 3 V, PG-TSSOP-38, Reel, Green; Manufacturer: Infineon; PartNumber: SAL-XC866-4FRA 3V BE; A / D input lines (incl. FADC): 8; CAN Nodes: 0; Digital I/O Lines: 27; DSP functionality (e.g MDU/MAC): FALSE; Green: TRUE; I/O Operation Voltages: 3 V; LIN BSL loader (for fast Flash programming): FALSE; Max Clock Frequency: 25 MHz; Number of ADC Modules: 1; Power Modes: 4; Serial I/O Interfaces: 2; Timer / Counter: 3; Type of Memory: Flash; Type of Serial I/O Interfaces: UART(1), SSC(1); DatasheetVersion: Rev. 1.1; PackageVersion: V1.2, 10/2007; PackageReference: PG-TSSOP-38-4; PackageDescription: 38-Pin Plastic (Green) Thin Shrink Small Outline Package, Body 9.7 x 4.4 mm, Pitch 0.5 mm; DMA Channels: 0; E2PROM Emulation (Data-Flash): FALSE; Halogen-free: TRUE; Instruction width [bits]: 8; On-chip clock generation: TRUE; On-chip Voltage Regulator: TRUE; Oscillator Watchdog: TRUE; Packing: Reel; Program Memory: 16 KByte; Real Time Clock (RTC): FALSE; SRAM (incl. Cache): 0.75 KByte; Timed I/O Pins (PWM-Ch,CAPCOM): 4; Watchdog Timer: TRUE; Mounting Technology: Surface Mount; ComponentLink1Description: Manufacturer URL; ComponentLink1URL: http://www.infineon.com/; ComponentLink2Description: Datasheet; ComponentLink2URL: http://www.infineon.com/dgdl/SAL_XC866_ds_v1+1_2012-12.pdf?folderId=db3a304412b407950112b40c497b0af6&fileId=db3a30433004641301306564e09f0366; ComponentLink3Description: Package Specification; ComponentLink3URL: http://www.infineon.com/dgdl/XC866_ds_v12.pdf?folderId=db3a304412b407950112b408e8c90004&fileId=db3a304412b407950112b4198e7528a5&sId=db3a30433d956bc3013da013eedc2925
footprint INF-PG-TSSOP-38-4_N (SOP, 38-Leads, Body 9.7x4.4mm, Pitch 0.5mm, IPC Medium Density)
footprint INF-PG-TSSOP-38-4_L (SOP, 38-Leads, Body 9.7x4.4mm, Pitch 0.5mm, IPC High Density)
footprint INF-PG-TSSOP-38-4_M (SOP, 38-Leads, Body 9.7x4.4mm, Pitch 0.5mm, IPC Low Density)
pins: 1 MBC (in) "Monitor & BootStrap Loader Control", 2 P0.3 (io), 3 P0.4 (io), 4 P0.5 (io), 5 XTAL2 "External Oscillator Output (NC if not needed)", 6 XTAL1 "External Oscillator Input (NC if not needed)", 7 VSSC (power) "Core Supply Ground", 8 VDDC (power) "Core Supply Monitor (2.5 V)", 9 P1.6 (io), 10 P1.7 (io), 11 TMS (in) "Test Mode Select", 12 P0.0 (io), 13 P0.2 (io), 14 P0.1 (io), 15 P2.0 (in), 16 P2.1 (in), 17 P2.2 (in), 18 VDDP (power) "I/O Port Supply (3.3 V/5.0 V) Also used by EVR and analog modules.", 19 VSSP (power) "I/O Port Ground", 20 P2.3 (in), 21 P2.4 (in), 22 P2.5 (in), 23 P2.6 (in), 24 VAGND (power) "ADC Reference Ground", 25 VAREF (power) "ADC Reference Voltage", 26 P2.7 (in), 27 P1.0 (io), 28 P1.1 (io), 29 P1.5 (io), 30 P3.6 (io), 31 P3.7 (io), 32 P3.0 (io), 33 P3.1 (io), 34 P3.2 (io), 35 P3.3 (io), 36 P3.4 (io), 37 P3.5 (io), 38 ~{RESET} (in) "Reset Input"

## SAL-XC866-4FRA 5V BE
designator U?
25 MHz XC800-Automotive MCU with 16 KByte Program Memory, 0.75 KByte SRAM, 5 V, PG-TSSOP-38, Reel, Green; Manufacturer: Infineon; PartNumber: SAL-XC866-4FRA 5V BE; A / D input lines (incl. FADC): 8; CAN Nodes: 0; Digital I/O Lines: 27; DSP functionality (e.g MDU/MAC): FALSE; Green: TRUE; I/O Operation Voltages: 5 V; LIN BSL loader (for fast Flash programming): FALSE; Max Clock Frequency: 25 MHz; Number of ADC Modules: 1; Power Modes: 4; Serial I/O Interfaces: 2; Timer / Counter: 3; Type of Memory: Flash; Type of Serial I/O Interfaces: UART(1), SSC(1); DatasheetVersion: Rev. 1.1; PackageVersion: V1.2, 10/2007; PackageReference: PG-TSSOP-38-4; PackageDescription: 38-Pin Plastic (Green) Thin Shrink Small Outline Package, Body 9.7 x 4.4 mm, Pitch 0.5 mm; DMA Channels: 0; E2PROM Emulation (Data-Flash): FALSE; Halogen-free: TRUE; Instruction width [bits]: 8; On-chip clock generation: TRUE; On-chip Voltage Regulator: TRUE; Oscillator Watchdog: TRUE; Packing: Reel; Program Memory: 16 KByte; Real Time Clock (RTC): FALSE; SRAM (incl. Cache): 0.75 KByte; Timed I/O Pins (PWM-Ch,CAPCOM): 4; Watchdog Timer: TRUE; Mounting Technology: Surface Mount; ComponentLink1Description: Manufacturer URL; ComponentLink1URL: http://www.infineon.com/; ComponentLink2Description: Datasheet; ComponentLink2URL: http://www.infineon.com/dgdl/SAL_XC866_ds_v1+1_2012-12.pdf?folderId=db3a304412b407950112b40c497b0af6&fileId=db3a30433004641301306564e09f0366; ComponentLink3Description: Package Specification; ComponentLink3URL: http://www.infineon.com/dgdl/XC866_ds_v12.pdf?folderId=db3a304412b407950112b408e8c90004&fileId=db3a304412b407950112b4198e7528a5&sId=db3a30433d956bc3013da013eedc2925
footprint INF-PG-TSSOP-38-4_N (SOP, 38-Leads, Body 9.7x4.4mm, Pitch 0.5mm, IPC Medium Density)
footprint INF-PG-TSSOP-38-4_L (SOP, 38-Leads, Body 9.7x4.4mm, Pitch 0.5mm, IPC High Density)
footprint INF-PG-TSSOP-38-4_M (SOP, 38-Leads, Body 9.7x4.4mm, Pitch 0.5mm, IPC Low Density)
pins: 1 MBC (in) "Monitor & BootStrap Loader Control", 2 P0.3 (io), 3 P0.4 (io), 4 P0.5 (io), 5 XTAL2 "External Oscillator Output (NC if not needed)", 6 XTAL1 "External Oscillator Input (NC if not needed)", 7 VSSC (power) "Core Supply Ground", 8 VDDC (power) "Core Supply Monitor (2.5 V)", 9 P1.6 (io), 10 P1.7 (io), 11 TMS (in) "Test Mode Select", 12 P0.0 (io), 13 P0.2 (io), 14 P0.1 (io), 15 P2.0 (in), 16 P2.1 (in), 17 P2.2 (in), 18 VDDP (power) "I/O Port Supply (3.3 V/5.0 V) Also used by EVR and analog modules.", 19 VSSP (power) "I/O Port Ground", 20 P2.3 (in), 21 P2.4 (in), 22 P2.5 (in), 23 P2.6 (in), 24 VAGND (power) "ADC Reference Ground", 25 VAREF (power) "ADC Reference Voltage", 26 P2.7 (in), 27 P1.0 (io), 28 P1.1 (io), 29 P1.5 (io), 30 P3.6 (io), 31 P3.7 (io), 32 P3.0 (io), 33 P3.1 (io), 34 P3.2 (io), 35 P3.3 (io), 36 P3.4 (io), 37 P3.5 (io), 38 ~{RESET} (in) "Reset Input"

## SAL-XC866L-2FRA 3V BE
designator U?
25 MHz XC800-Automotive MCU with 8 KByte Program Memory, 0.75 KByte SRAM, 3 V, PG-TSSOP-38, Reel, Green; Manufacturer: Infineon; PartNumber: SAL-XC866L-2FRA 3V BE; A / D input lines (incl. FADC): 8; CAN Nodes: 0; Digital I/O Lines: 27; DSP functionality (e.g MDU/MAC): FALSE; Green: TRUE; I/O Operation Voltages: 3 V; Max Clock Frequency: 25 MHz; Number of ADC Modules: 1; Power Modes: 4; Program Memory: 8 KByte; Serial I/O Interfaces: 2; Timer / Counter: 3; Type of Memory: Flash; Type of Serial I/O Interfaces: UART(1), SSC(1); DatasheetVersion: Rev. 1.1; PackageVersion: V1.2, 10/2007; PackageReference: PG-TSSOP-38-4; PackageDescription: 38-Pin Plastic (Green) Thin Shrink Small Outline Package, Body 9.7 x 4.4 mm, Pitch 0.5 mm; DMA Channels: 0; E2PROM Emulation (Data-Flash): FALSE; Halogen-free: TRUE; Instruction width [bits]: 8; LIN BSL loader (for fast Flash programming): TRUE; On-chip clock generation: TRUE; On-chip Voltage Regulator: TRUE; Oscillator Watchdog: TRUE; Packing: Reel; Real Time Clock (RTC): FALSE; SRAM (incl. Cache): 0.75 KByte; Timed I/O Pins (PWM-Ch,CAPCOM): 4; Watchdog Timer: TRUE; Mounting Technology: Surface Mount; ComponentLink1Description: Manufacturer URL; ComponentLink1URL: http://www.infineon.com/; ComponentLink2Description: Datasheet; ComponentLink2URL: http://www.infineon.com/dgdl/SAL_XC866_ds_v1+1_2012-12.pdf?folderId=db3a304412b407950112b40c497b0af6&fileId=db3a30433004641301306564e09f0366; ComponentLink3Description: Package Specification; ComponentLink3URL: http://www.infineon.com/dgdl/XC866_ds_v12.pdf?folderId=db3a304412b407950112b408e8c90004&fileId=db3a304412b407950112b4198e7528a5&sId=db3a30433d956bc3013da013eedc2925
footprint INF-PG-TSSOP-38-4_N (SOP, 38-Leads, Body 9.7x4.4mm, Pitch 0.5mm, IPC Medium Density)
footprint INF-PG-TSSOP-38-4_L (SOP, 38-Leads, Body 9.7x4.4mm, Pitch 0.5mm, IPC High Density)
footprint INF-PG-TSSOP-38-4_M (SOP, 38-Leads, Body 9.7x4.4mm, Pitch 0.5mm, IPC Low Density)
pins: 1 MBC (in) "Monitor & BootStrap Loader Control", 2 P0.3 (io), 3 P0.4 (io), 4 P0.5 (io), 5 XTAL2 "External Oscillator Output (NC if not needed)", 6 XTAL1 "External Oscillator Input (NC if not needed)", 7 VSSC (power) "Core Supply Ground", 8 VDDC (power) "Core Supply Monitor (2.5 V)", 9 P1.6 (io), 10 P1.7 (io), 11 TMS (in) "Test Mode Select", 12 P0.0 (io), 13 P0.2 (io), 14 P0.1 (io), 15 P2.0 (in), 16 P2.1 (in), 17 P2.2 (in), 18 VDDP (power) "I/O Port Supply (3.3 V/5.0 V) Also used by EVR and analog modules.", 19 VSSP (power) "I/O Port Ground", 20 P2.3 (in), 21 P2.4 (in), 22 P2.5 (in), 23 P2.6 (in), 24 VAGND (power) "ADC Reference Ground", 25 VAREF (power) "ADC Reference Voltage", 26 P2.7 (in), 27 P1.0 (io), 28 P1.1 (io), 29 P1.5 (io), 30 P3.6 (io), 31 P3.7 (io), 32 P3.0 (io), 33 P3.1 (io), 34 P3.2 (io), 35 P3.3 (io), 36 P3.4 (io), 37 P3.5 (io), 38 ~{RESET} (in) "Reset Input"

## SAL-XC866L-2FRA 5V BE
designator U?
25 MHz XC800-Automotive MCU with 8 KByte Program Memory, 0.75 KByte SRAM, 5 V, PG-TSSOP-38, Reel, Green; Manufacturer: Infineon; PartNumber: SAL-XC866L-2FRA 5V BE; A / D input lines (incl. FADC): 8; CAN Nodes: 0; Digital I/O Lines: 27; DSP functionality (e.g MDU/MAC): FALSE; Green: TRUE; I/O Operation Voltages: 5 V; Max Clock Frequency: 25 MHz; Number of ADC Modules: 1; Power Modes: 4; Program Memory: 8 KByte; Serial I/O Interfaces: 2; Timer / Counter: 3; Type of Memory: Flash; Type of Serial I/O Interfaces: UART(1), SSC(1); DatasheetVersion: Rev. 1.1; PackageVersion: V1.2, 10/2007; PackageReference: PG-TSSOP-38-4; PackageDescription: 38-Pin Plastic (Green) Thin Shrink Small Outline Package, Body 9.7 x 4.4 mm, Pitch 0.5 mm; DMA Channels: 0; E2PROM Emulation (Data-Flash): FALSE; Halogen-free: TRUE; Instruction width [bits]: 8; LIN BSL loader (for fast Flash programming): TRUE; On-chip clock generation: TRUE; On-chip Voltage Regulator: TRUE; Oscillator Watchdog: TRUE; Packing: Reel; Real Time Clock (RTC): FALSE; SRAM (incl. Cache): 0.75 KByte; Timed I/O Pins (PWM-Ch,CAPCOM): 4; Watchdog Timer: TRUE; Mounting Technology: Surface Mount; ComponentLink1Description: Manufacturer URL; ComponentLink1URL: http://www.infineon.com/; ComponentLink2Description: Datasheet; ComponentLink2URL: http://www.infineon.com/dgdl/SAL_XC866_ds_v1+1_2012-12.pdf?folderId=db3a304412b407950112b40c497b0af6&fileId=db3a30433004641301306564e09f0366; ComponentLink3Description: Package Specification; ComponentLink3URL: http://www.infineon.com/dgdl/XC866_ds_v12.pdf?folderId=db3a304412b407950112b408e8c90004&fileId=db3a304412b407950112b4198e7528a5&sId=db3a30433d956bc3013da013eedc2925
footprint INF-PG-TSSOP-38-4_N (SOP, 38-Leads, Body 9.7x4.4mm, Pitch 0.5mm, IPC Medium Density)
footprint INF-PG-TSSOP-38-4_L (SOP, 38-Leads, Body 9.7x4.4mm, Pitch 0.5mm, IPC High Density)
footprint INF-PG-TSSOP-38-4_M (SOP, 38-Leads, Body 9.7x4.4mm, Pitch 0.5mm, IPC Low Density)
pins: 1 MBC (in) "Monitor & BootStrap Loader Control", 2 P0.3 (io), 3 P0.4 (io), 4 P0.5 (io), 5 XTAL2 "External Oscillator Output (NC if not needed)", 6 XTAL1 "External Oscillator Input (NC if not needed)", 7 VSSC (power) "Core Supply Ground", 8 VDDC (power) "Core Supply Monitor (2.5 V)", 9 P1.6 (io), 10 P1.7 (io), 11 TMS (in) "Test Mode Select", 12 P0.0 (io), 13 P0.2 (io), 14 P0.1 (io), 15 P2.0 (in), 16 P2.1 (in), 17 P2.2 (in), 18 VDDP (power) "I/O Port Supply (3.3 V/5.0 V) Also used by EVR and analog modules.", 19 VSSP (power) "I/O Port Ground", 20 P2.3 (in), 21 P2.4 (in), 22 P2.5 (in), 23 P2.6 (in), 24 VAGND (power) "ADC Reference Ground", 25 VAREF (power) "ADC Reference Voltage", 26 P2.7 (in), 27 P1.0 (io), 28 P1.1 (io), 29 P1.5 (io), 30 P3.6 (io), 31 P3.7 (io), 32 P3.0 (io), 33 P3.1 (io), 34 P3.2 (io), 35 P3.3 (io), 36 P3.4 (io), 37 P3.5 (io), 38 ~{RESET} (in) "Reset Input"

## SAL-XC866L-4FRA 3V BE
designator U?
25 MHz XC800-Automotive MCU with 16 KByte Program Memory, 0.75 KByte SRAM, 3 V, PG-TSSOP-38, Reel, Green; Manufacturer: Infineon; PartNumber: SAL-XC866L-4FRA 3V BE; A / D input lines (incl. FADC): 8; CAN Nodes: 0; Digital I/O Lines: 27; DSP functionality (e.g MDU/MAC): FALSE; Green: TRUE; I/O Operation Voltages: 3 V; Max Clock Frequency: 25 MHz; Number of ADC Modules: 1; Power Modes: 4; Serial I/O Interfaces: 2; Timer / Counter: 3; Type of Memory: Flash; Type of Serial I/O Interfaces: UART(1), SSC(1); DatasheetVersion: Rev. 1.1; PackageVersion: V1.2, 10/2007; PackageReference: PG-TSSOP-38-4; PackageDescription: 38-Pin Plastic (Green) Thin Shrink Small Outline Package, Body 9.7 x 4.4 mm, Pitch 0.5 mm; DMA Channels: 0; E2PROM Emulation (Data-Flash): FALSE; Halogen-free: TRUE; Instruction width [bits]: 8; LIN BSL loader (for fast Flash programming): TRUE; On-chip clock generation: TRUE; On-chip Voltage Regulator: TRUE; Oscillator Watchdog: TRUE; Packing: Reel; Program Memory: 16 KByte; Real Time Clock (RTC): FALSE; SRAM (incl. Cache): 0.75 KByte; Timed I/O Pins (PWM-Ch,CAPCOM): 4; Watchdog Timer: TRUE; Mounting Technology: Surface Mount; ComponentLink1Description: Manufacturer URL; ComponentLink1URL: http://www.infineon.com/; ComponentLink2Description: Datasheet; ComponentLink2URL: http://www.infineon.com/dgdl/SAL_XC866_ds_v1+1_2012-12.pdf?folderId=db3a304412b407950112b40c497b0af6&fileId=db3a30433004641301306564e09f0366; ComponentLink3Description: Package Specification; ComponentLink3URL: http://www.infineon.com/dgdl/XC866_ds_v12.pdf?folderId=db3a304412b407950112b408e8c90004&fileId=db3a304412b407950112b4198e7528a5&sId=db3a30433d956bc3013da013eedc2925
footprint INF-PG-TSSOP-38-4_N (SOP, 38-Leads, Body 9.7x4.4mm, Pitch 0.5mm, IPC Medium Density)
footprint INF-PG-TSSOP-38-4_L (SOP, 38-Leads, Body 9.7x4.4mm, Pitch 0.5mm, IPC High Density)
footprint INF-PG-TSSOP-38-4_M (SOP, 38-Leads, Body 9.7x4.4mm, Pitch 0.5mm, IPC Low Density)
pins: 1 MBC (in) "Monitor & BootStrap Loader Control", 2 P0.3 (io), 3 P0.4 (io), 4 P0.5 (io), 5 XTAL2 "External Oscillator Output (NC if not needed)", 6 XTAL1 "External Oscillator Input (NC if not needed)", 7 VSSC (power) "Core Supply Ground", 8 VDDC (power) "Core Supply Monitor (2.5 V)", 9 P1.6 (io), 10 P1.7 (io), 11 TMS (in) "Test Mode Select", 12 P0.0 (io), 13 P0.2 (io), 14 P0.1 (io), 15 P2.0 (in), 16 P2.1 (in), 17 P2.2 (in), 18 VDDP (power) "I/O Port Supply (3.3 V/5.0 V) Also used by EVR and analog modules.", 19 VSSP (power) "I/O Port Ground", 20 P2.3 (in), 21 P2.4 (in), 22 P2.5 (in), 23 P2.6 (in), 24 VAGND (power) "ADC Reference Ground", 25 VAREF (power) "ADC Reference Voltage", 26 P2.7 (in), 27 P1.0 (io), 28 P1.1 (io), 29 P1.5 (io), 30 P3.6 (io), 31 P3.7 (io), 32 P3.0 (io), 33 P3.1 (io), 34 P3.2 (io), 35 P3.3 (io), 36 P3.4 (io), 37 P3.5 (io), 38 ~{RESET} (in) "Reset Input"

## SAL-XC866L-4FRA 5V BE
designator U?
25 MHz XC800-Automotive MCU with 16 KByte Program Memory, 0.75 KByte SRAM, 5 V, PG-TSSOP-38, Reel, Green; Manufacturer: Infineon; PartNumber: SAL-XC866L-4FRA 5V BE; A / D input lines (incl. FADC): 8; CAN Nodes: 0; Digital I/O Lines: 27; DSP functionality (e.g MDU/MAC): FALSE; Green: TRUE; I/O Operation Voltages: 5 V; Max Clock Frequency: 25 MHz; Number of ADC Modules: 1; Power Modes: 4; Serial I/O Interfaces: 2; Timer / Counter: 3; Type of Memory: Flash; Type of Serial I/O Interfaces: UART(1), SSC(1); DatasheetVersion: Rev. 1.1; PackageVersion: V1.2, 10/2007; PackageReference: PG-TSSOP-38-4; PackageDescription: 38-Pin Plastic (Green) Thin Shrink Small Outline Package, Body 9.7 x 4.4 mm, Pitch 0.5 mm; DMA Channels: 0; E2PROM Emulation (Data-Flash): FALSE; Halogen-free: TRUE; Instruction width [bits]: 8; LIN BSL loader (for fast Flash programming): TRUE; On-chip clock generation: FALSE; On-chip Voltage Regulator: TRUE; Oscillator Watchdog: TRUE; Packing: Reel; Program Memory: 16 KByte; Real Time Clock (RTC): FALSE; SRAM (incl. Cache): 0.75 KByte; Timed I/O Pins (PWM-Ch,CAPCOM): 4; Watchdog Timer: TRUE; Mounting Technology: Surface Mount; ComponentLink1Description: Manufacturer URL; ComponentLink1URL: http://www.infineon.com/; ComponentLink2Description: Datasheet; ComponentLink2URL: http://www.infineon.com/dgdl/SAL_XC866_ds_v1+1_2012-12.pdf?folderId=db3a304412b407950112b40c497b0af6&fileId=db3a30433004641301306564e09f0366; ComponentLink3Description: Package Specification; ComponentLink3URL: http://www.infineon.com/dgdl/XC866_ds_v12.pdf?folderId=db3a304412b407950112b408e8c90004&fileId=db3a304412b407950112b4198e7528a5&sId=db3a30433d956bc3013da013eedc2925
footprint INF-PG-TSSOP-38-4_N (SOP, 38-Leads, Body 9.7x4.4mm, Pitch 0.5mm, IPC Medium Density)
footprint INF-PG-TSSOP-38-4_L (SOP, 38-Leads, Body 9.7x4.4mm, Pitch 0.5mm, IPC High Density)
footprint INF-PG-TSSOP-38-4_M (SOP, 38-Leads, Body 9.7x4.4mm, Pitch 0.5mm, IPC Low Density)
pins: 1 MBC (in) "Monitor & BootStrap Loader Control", 2 P0.3 (io), 3 P0.4 (io), 4 P0.5 (io), 5 XTAL2 "External Oscillator Output (NC if not needed)", 6 XTAL1 "External Oscillator Input (NC if not needed)", 7 VSSC (power) "Core Supply Ground", 8 VDDC (power) "Core Supply Monitor (2.5 V)", 9 P1.6 (io), 10 P1.7 (io), 11 TMS (in) "Test Mode Select", 12 P0.0 (io), 13 P0.2 (io), 14 P0.1 (io), 15 P2.0 (in), 16 P2.1 (in), 17 P2.2 (in), 18 VDDP (power) "I/O Port Supply (3.3 V/5.0 V) Also used by EVR and analog modules.", 19 VSSP (power) "I/O Port Ground", 20 P2.3 (in), 21 P2.4 (in), 22 P2.5 (in), 23 P2.6 (in), 24 VAGND (power) "ADC Reference Ground", 25 VAREF (power) "ADC Reference Voltage", 26 P2.7 (in), 27 P1.0 (io), 28 P1.1 (io), 29 P1.5 (io), 30 P3.6 (io), 31 P3.7 (io), 32 P3.0 (io), 33 P3.1 (io), 34 P3.2 (io), 35 P3.3 (io), 36 P3.4 (io), 37 P3.5 (io), 38 ~{RESET} (in) "Reset Input"

## SAL-XC886-8FFA 5V AC
designator U?
20 MHz XC800-Automotive MCU with 32 KByte Program Memory, 1.75 KByte SRAM, 5 V, PG-TQFP-48, Green; Manufacturer: Infineon; PartNumber: SAL-XC886-8FFA 5V AC; A / D input lines (incl. FADC): 8; CAN Nodes: 0; Digital I/O Lines: 34; DSP functionality (e.g MDU/MAC): TRUE; I/O Operation Voltages: 5 V; LIN BSL loader (for fast Flash programming): FALSE; Max Clock Frequency: 20 MHz; Number of ADC Modules: 1; Power Modes: 4; Real Time Clock (RTC): FALSE; Serial I/O Interfaces: 3; Type of Memory: Flash; Type of Serial I/O Interfaces: UART(2), SSC(1); DatasheetVersion: Rev. 1.0; PackageVersion: V1.2, 07/2009; PackageReference: PG-TQFP-48-2; PackageDescription: 48-Pin Plastic (Green) Thin Quad Flat Package, Body 7 x 7 mm, Pitch 0.5 mm; Supplier 1: Digi-Key; Supplier Part Number 1: SAL-XC886-8FFA 5V AC-ND; DMA Channels: 0; E2PROM Emulation (Data-Flash): TRUE; Green: TRUE; Instruction width [bits]: 8; On-chip clock generation: TRUE; On-chip Voltage Regulator: TRUE; Oscillator Watchdog: TRUE; Program Memory: 32 KByte; SRAM (incl. Cache): 1.75 KByte; Timed I/O Pins (PWM-Ch,CAPCOM): 4; Timer / Counter: 4; Watchdog Timer: TRUE; Mounting Technology: Surface Mount; ComponentLink1Description: Manufacturer URL; ComponentLink1URL: http://www.infineon.com/; ComponentLink2Description: Datasheet; ComponentLink2URL: http://www.infineon.com/dgdl/Microcontroller-SAL-XC886CLM-Data-Sheet-v10-Infineon.pdf?folderId=db3a304412b407950112b40c497b0af6&fileId=db3a3043284aacd80128b05aec745618; ComponentLink3Description: Package Specification; ComponentLink3URL: http://www.infineon.com/dgdl/XC88xCLM_ds_V1_2.pdf?folderId=db3a304412b407950112b408e8c90004&fileId=db3a304412b407950112b40c4a9e0afb&sId=db3a30433d956bc3013d9f3d9f5d28dc
footprint INF-PG-TQFP-48-2_N (QFP, 48-Leads, Body 7x7mm, Pitch 0.5mm, IPC Medium Density)
footprint INF-PG-TQFP-48-2_L (QFP, 48-Leads, Body 7x7mm, Pitch 0.5mm, IPC High Density)
footprint INF-PG-TQFP-48-2_M (QFP, 48-Leads, Body 7x7mm, Pitch 0.5mm, IPC Low Density)
pins: 1 P0.4 (io), 2 P0.5 (io), 3 XTAL2 "External Oscillator Output (backup for on-chip OSC, normally NC)", 4 XTAL1 "External Oscillator Input (backup for on-chip OSC, normally NC)", 5 VSSC (power) "Core Supply Ground", 6 VDDC (power) "Core Supply Monitor (2.5 V)", 7 VDDP (power) "I/O Port Supply (5.0 V) Also used by EVR and analog modules. All pins must be connected.", 8 P1.6 (io), 9 P1.7 (io), 10 TMS (in) "Test Mode Select", 11 P0.0 (io), 12 P0.2 (io), 13 P0.1 (io), 14 P2.0 (in), 15 P2.1 (in), 16 P2.2 (in), 17 VDDP (power) "I/O Port Supply (5.0 V) Also used by EVR and analog modules. All pins must be connected.", 18 VSSP (power) "I/O Port Ground All pins must be connected.", 19 P2.3 (in), 20 P2.4 (in), 21 P2.5 (in), 22 P2.6 (in), 23 VAGND (power) "ADC Reference Ground", 24 VAREF (power) "ADC Reference Voltage", 25 P2.7 (in), 26 P1.0 (io), 27 P1.1 (io), 28 P1.2 (io), 29 P1.3 (io), 30 P1.4 (io), 31 P1.5 (io), 32 P4.3 (io), 33 P3.6 (io), 34 P3.7 (io), 35 P3.0 (io), 36 P3.1 (io), 37 P3.2 (io), 38 P3.3 (io), 39 P3.4 (io), 40 P3.5 (io), 41 ~{RESET} (in) "Reset Input", 42 VSSP (power) "I/O Port Ground All pins must be connected.", 43 VDDP (power) "I/O Port Supply (5.0 V) Also used by EVR and analog modules. All pins must be connected.", 44 MBC (in) "Monitor & BootStrap Loader Control", 45 P4.0 (io), 46 P4.1 (io), 47 P0.7 (io), 48 P0.3 (io)

## SAL-XC886CLM-8FFA 5V AC
designator U?
20 MHz XC800-Automotive MCU with 32 KByte Program Memory, 1.75 KByte SRAM, 5 V, PG-TQFP-48, Green; Manufacturer: Infineon; PartNumber: SAL-XC886CLM-8FFA 5V AC; A / D input lines (incl. FADC): 8; CAN Nodes: 2; Digital I/O Lines: 34; DMA Channels: 0; DSP functionality (e.g MDU/MAC): TRUE; I/O Operation Voltages: 5 V; LIN BSL loader (for fast Flash programming): FALSE; Max Clock Frequency: 20 MHz; Number of ADC Modules: 1; Power Modes: 4; Real Time Clock (RTC): FALSE; Serial I/O Interfaces: 3; Type of Memory: Flash; Type of Serial I/O Interfaces: UART(2), SSC(1); DatasheetVersion: Rev. 1.0; PackageVersion: V1.2, 07/2009; PackageReference: PG-TQFP-48-2; PackageDescription: 48-Pin Plastic (Green) Thin Quad Flat Package, Body 7 x 7 mm, Pitch 0.5 mm; Supplier 1: Digi-Key; Supplier Part Number 1: SAL-XC886CLM-8FFA 5V AC-ND; E2PROM Emulation (Data-Flash): TRUE; Green: TRUE; Instruction width [bits]: 8; On-chip clock generation: TRUE; On-chip Voltage Regulator: TRUE; Oscillator Watchdog: TRUE; Program Memory: 32 KByte; SRAM (incl. Cache): 1.75 KByte; Timed I/O Pins (PWM-Ch,CAPCOM): 4; Timer / Counter: 4; Watchdog Timer: TRUE; Mounting Technology: Surface Mount; ComponentLink1Description: Manufacturer URL; ComponentLink1URL: http://www.infineon.com/; ComponentLink2Description: Datasheet; ComponentLink2URL: http://www.infineon.com/dgdl/Microcontroller-SAL-XC886CLM-Data-Sheet-v10-Infineon.pdf?folderId=db3a304412b407950112b40c497b0af6&fileId=db3a3043284aacd80128b05aec745618; ComponentLink3Description: Package Specification; ComponentLink3URL: http://www.infineon.com/dgdl/XC88xCLM_ds_V1_2.pdf?folderId=db3a304412b407950112b408e8c90004&fileId=db3a304412b407950112b40c4a9e0afb&sId=db3a30433d956bc3013d9f3d9f5d28dc
footprint INF-PG-TQFP-48-2_N (QFP, 48-Leads, Body 7x7mm, Pitch 0.5mm, IPC Medium Density)
footprint INF-PG-TQFP-48-2_L (QFP, 48-Leads, Body 7x7mm, Pitch 0.5mm, IPC High Density)
footprint INF-PG-TQFP-48-2_M (QFP, 48-Leads, Body 7x7mm, Pitch 0.5mm, IPC Low Density)
pins: 1 P0.4 (io), 2 P0.5 (io), 3 XTAL2 "External Oscillator Output (backup for on-chip OSC, normally NC)", 4 XTAL1 "External Oscillator Input (backup for on-chip OSC, normally NC)", 5 VSSC (power) "Core Supply Ground", 6 VDDC (power) "Core Supply Monitor (2.5 V)", 7 VDDP (power) "I/O Port Supply (5.0 V) Also used by EVR and analog modules. All pins must be connected.", 8 P1.6 (io), 9 P1.7 (io), 10 TMS (in) "Test Mode Select", 11 P0.0 (io), 12 P0.2 (io), 13 P0.1 (io), 14 P2.0 (in), 15 P2.1 (in), 16 P2.2 (in), 17 VDDP (power) "I/O Port Supply (5.0 V) Also used by EVR and analog modules. All pins must be connected.", 18 VSSP (power) "I/O Port Ground All pins must be connected.", 19 P2.3 (in), 20 P2.4 (in), 21 P2.5 (in), 22 P2.6 (in), 23 VAGND (power) "ADC Reference Ground", 24 VAREF (power) "ADC Reference Voltage", 25 P2.7 (in), 26 P1.0 (io), 27 P1.1 (io), 28 P1.2 (io), 29 P1.3 (io), 30 P1.4 (io), 31 P1.5 (io), 32 P4.3 (io), 33 P3.6 (io), 34 P3.7 (io), 35 P3.0 (io), 36 P3.1 (io), 37 P3.2 (io), 38 P3.3 (io), 39 P3.4 (io), 40 P3.5 (io), 41 ~{RESET} (in) "Reset Input", 42 VSSP (power) "I/O Port Ground All pins must be connected.", 43 VDDP (power) "I/O Port Supply (5.0 V) Also used by EVR and analog modules. All pins must be connected.", 44 MBC (in) "Monitor & BootStrap Loader Control", 45 P4.0 (io), 46 P4.1 (io), 47 P0.7 (io), 48 P0.3 (io)